# EAGLE library part AVR-ISP-6 (library InfoAmazonia)
AVR ISP-6 Serial Programming Header
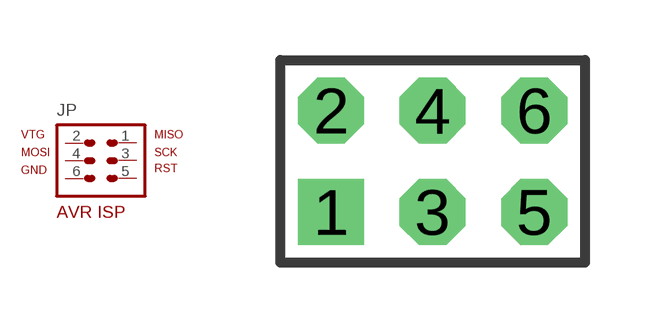
[diagram p1: symbol with the pads of AVR-ISP-6; footprint AVR-ISP-6]

Designator prefix JP

## AVR-ISP-6  [AVR-ISP-6]
1  MISO  pas
2  VTG  pas
3  SCK  pas
4  MOSI  pas
5  RST  pas
6  GND  pas

## Footprint AVR-ISP-6 (pad centres in mm)
PIN HEADER JTAG 6 Pin, 0.1" Straight
drill 1.1 square: 1 -2.54,-1.27
drill 1.1 octagon: 2 -2.54,1.27; 3 0,-1.27; 4 0,1.27; 5 2.54,-1.27; 6 2.54,1.27